# Altium integrated library Capacitors - Ceramic - 0402.IntLib: 4569 symbols (part 74 of 100)
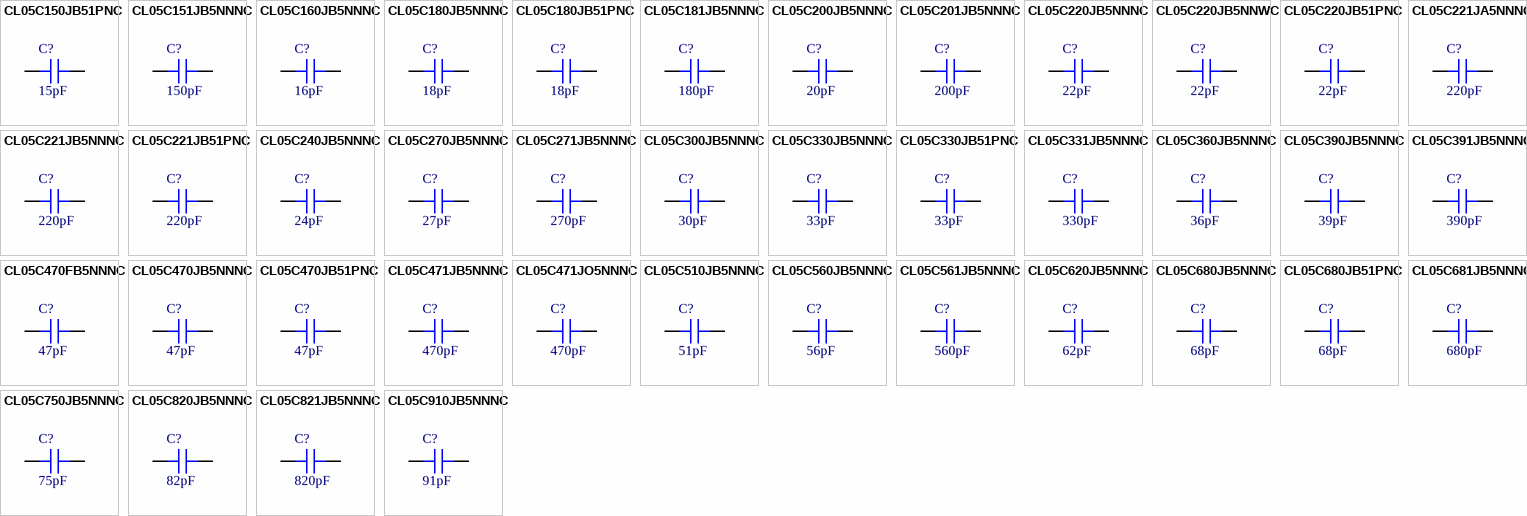
[diagram p187: symbols CL05C150JB51PNC to CL05C910JB5NNNC]

## CL05C471JO5NNNC
designator C?, comment 470pF
CAP CER 470PF 16V C0G/NP0 0402; Part Number: CL05C471JO5NNNC; Manufacturer: Samsung Electro-Mechanics; Temperature Coefficient: C0G, NP0; Tolerance: ±5%; Value: 470pF; Applications: General Purpose; Capacitance: 470pF; ComponentLink1Description: Datasheet; ComponentLink1URL: http://www.samsungsem.com/kr/support/product-search/mlcc/CL05C471JO5NNNC.jsp; ComponentLink2Description: DigiKey Link; ComponentLink2URL: http://digikey.com/product-detail/en/samsung-electro-mechanics/CL05C471JO5NNNC/1276-1700-1-ND/3889786; Device Package: 0402 (1005 Metric); LastUpdated: 9/2/2020 1:01:27 AM; Lifecycle Status: Active; Minimum Order: 1; Mounting Type: Surface Mount, MLCC; Operating Temperature: -55°C ~ 125°C; Package / Case: 0402 (1005 Metric); Packaging: TapeAndReel; PartId: 12963; Part Status: Active; Price: 0.01; Series: CL; Size / Dimension: 0.039" L x 0.020" W (1.00mm x 0.50mm); Supplier 1: DigiKey; Supplier Part Number 1: 1276-1700-1-ND; Thickness (Max): 0.022" (0.55mm); Voltage - Rated: 16V
footprint CAP 0402_1005
pins: 1, 2

## CL05C510JB5NNNC
designator C?, comment 51pF
CAP CER 51PF 50V C0G/NP0 0402; Part Number: CL05C510JB5NNNC; Manufacturer: Samsung Electro-Mechanics; Temperature Coefficient: C0G, NP0; Tolerance: ±5%; Value: 51pF; Applications: General Purpose; Capacitance: 51pF; ComponentLink1Description: Datasheet; ComponentLink1URL: http://www.samsungsem.com/kr/support/product-search/mlcc/CL05C510JB5NNNC.jsp; ComponentLink2Description: DigiKey Link; ComponentLink2URL: http://digikey.com/product-detail/en/samsung-electro-mechanics/CL05C510JB5NNNC/1276-1704-1-ND/3889790; Device Package: 0402 (1005 Metric); LastUpdated: 9/2/2020 1:02:04 AM; Lifecycle Status: Active; Minimum Order: 1; Mounting Type: Surface Mount, MLCC; Operating Temperature: -55°C ~ 125°C; Package / Case: 0402 (1005 Metric); Packaging: TapeAndReel; PartId: 10674; Part Status: Active; Price: 0.01; Series: CL; Size / Dimension: 0.039" L x 0.020" W (1.00mm x 0.50mm); Supplier 1: DigiKey; Supplier Part Number 1: 1276-1704-1-ND; Thickness (Max): 0.022" (0.55mm); Voltage - Rated: 50V
footprint CAP 0402_1005
pins: 1, 2

## CL05C560JB5NNNC
designator C?, comment 56pF
CAP CER 56PF 50V C0G/NP0 0402; Part Number: CL05C560JB5NNNC; Manufacturer: Samsung Electro-Mechanics; Temperature Coefficient: C0G, NP0; Tolerance: ±5%; Value: 56pF; Applications: General Purpose; Capacitance: 56pF; ComponentLink1Description: Datasheet; ComponentLink1URL: http://www.samsungsem.com/kr/support/product-search/mlcc/CL05C560JB5NNNC.jsp; ComponentLink2Description: DigiKey Link; ComponentLink2URL: http://digikey.com/product-detail/en/samsung-electro-mechanics/CL05C560JB5NNNC/1276-1707-1-ND/3889793; Device Package: 0402 (1005 Metric); LastUpdated: 9/2/2020 1:02:02 AM; Lifecycle Status: Active; Minimum Order: 1; Mounting Type: Surface Mount, MLCC; Operating Temperature: -55°C ~ 125°C; Package / Case: 0402 (1005 Metric); Packaging: CutTape; PartId: 11639; Part Status: Active; Price: 0.10; Series: CL; Size / Dimension: 0.039" L x 0.020" W (1.00mm x 0.50mm); Supplier 1: DigiKey; Supplier Part Number 1: 1276-1707-1-ND; Thickness (Max): 0.022" (0.55mm); Voltage - Rated: 50V
footprint CAP 0402_1005
pins: 1, 2

## CL05C561JB5NNNC
designator C?, comment 560pF
CAP CER 560PF 50V C0G/NP0 0402; Part Number: CL05C561JB5NNNC; Manufacturer: Samsung Electro-Mechanics; Temperature Coefficient: C0G, NP0; Tolerance: ±5%; Value: 560pF; Applications: General Purpose; Capacitance: 560pF; ComponentLink1Description: Datasheet; ComponentLink1URL: http://www.samsungsem.com/kr/support/product-search/mlcc/CL05C561JB5NNNC.jsp; ComponentLink2Description: DigiKey Link; ComponentLink2URL: http://digikey.com/product-detail/en/samsung-electro-mechanics/CL05C561JB5NNNC/1276-1709-1-ND/3889795; Device Package: 0402 (1005 Metric); LastUpdated: 9/2/2020 1:02:14 AM; Lifecycle Status: Active; Minimum Order: 1; Mounting Type: Surface Mount, MLCC; Operating Temperature: -55°C ~ 125°C; Package / Case: 0402 (1005 Metric); Packaging: TapeAndReel; PartId: 6169; Part Status: Active; Price: 0.01; Series: CL; Size / Dimension: 0.039" L x 0.020" W (1.00mm x 0.50mm); Supplier 1: DigiKey; Supplier Part Number 1: 1276-1709-1-ND; Thickness (Max): 0.022" (0.55mm); Voltage - Rated: 50V
footprint CAP 0402_1005
pins: 1, 2

## CL05C620JB5NNNC
designator C?, comment 62pF
CAP CER 62PF 50V C0G/NP0 0402; Part Number: CL05C620JB5NNNC; Manufacturer: Samsung Electro-Mechanics; Temperature Coefficient: C0G, NP0; Tolerance: ±5%; Value: 62pF; Applications: General Purpose; Capacitance: 62pF; ComponentLink1Description: Datasheet; ComponentLink1URL: http://www.samsungsem.com/kr/support/product-search/mlcc/CL05C620JB5NNNC.jsp; ComponentLink2Description: DigiKey Link; ComponentLink2URL: http://digikey.com/product-detail/en/samsung-electro-mechanics/CL05C620JB5NNNC/1276-1714-1-ND/3889800; Device Package: 0402 (1005 Metric); LastUpdated: 9/2/2020 1:02:04 AM; Lifecycle Status: Active; Minimum Order: 1; Mounting Type: Surface Mount, MLCC; Operating Temperature: -55°C ~ 125°C; Package / Case: 0402 (1005 Metric); Packaging: TapeAndReel; PartId: 10761; Part Status: Active; Price: 0.01; Series: CL; Size / Dimension: 0.039" L x 0.020" W (1.00mm x 0.50mm); Supplier 1: DigiKey; Supplier Part Number 1: 1276-1714-1-ND; Thickness (Max): 0.022" (0.55mm); Voltage - Rated: 50V
footprint CAP 0402_1005
pins: 1, 2

## CL05C680JB5NNNC
designator C?, comment 68pF
CAP CER 68PF 50V C0G/NP0 0402; Part Number: CL05C680JB5NNNC; Manufacturer: Samsung Electro-Mechanics; Temperature Coefficient: C0G, NP0; Tolerance: ±5%; Value: 68pF; Applications: General Purpose; Capacitance: 68pF; ComponentLink1Description: Datasheet; ComponentLink1URL: http://www.samsungsem.com/kr/support/product-search/mlcc/CL05C680JB5NNNC.jsp; ComponentLink2Description: DigiKey Link; ComponentLink2URL: http://digikey.com/product-detail/en/samsung-electro-mechanics/CL05C680JB5NNNC/1276-1030-1-ND/3889116; Device Package: 0402 (1005 Metric); LastUpdated: 9/2/2020 1:02:02 AM; Lifecycle Status: Active; Minimum Order: 1; Mounting Type: Surface Mount, MLCC; Operating Temperature: -55°C ~ 125°C; Package / Case: 0402 (1005 Metric); Packaging: CutTape; PartId: 11719; Part Status: Active; Price: 0.10; Series: CL; Size / Dimension: 0.039" L x 0.020" W (1.00mm x 0.50mm); Supplier 1: DigiKey; Supplier Part Number 1: 1276-1030-1-ND; Thickness (Max): 0.022" (0.55mm); Voltage - Rated: 50V
footprint CAP 0402_1005
pins: 1, 2

## CL05C680JB51PNC
designator C?, comment 68pF
CAP CER 68PF 50V C0G/NP0 0402; Part Number: CL05C680JB51PNC; Manufacturer: Samsung Electro-Mechanics; Temperature Coefficient: C0G, NP0; Tolerance: ±5%; Value: 68pF; Applications: Automotive; Capacitance: 68pF; ComponentLink1Description: Datasheet; ComponentLink1URL: http://www.samsungsem.com/kr/support/product-search/mlcc/CL05C680JB51PNC.jsp; ComponentLink2Description: DigiKey Link; ComponentLink2URL: http://digikey.com/product-detail/en/samsung-electro-mechanics/CL05C680JB51PNC/1276-6591-1-ND/5961450; Device Package: 0402 (1005 Metric); LastUpdated: 9/2/2020 1:02:09 AM; Lifecycle Status: Active; Minimum Order: 1; Mounting Type: Surface Mount, MLCC; Operating Temperature: -55°C ~ 125°C; Package / Case: 0402 (1005 Metric); Packaging: TapeAndReel; PartId: 8791; Part Status: Active; Price: 0.01; Ratings: AEC-Q200; Series: CL; Size / Dimension: 0.039" L x 0.020" W (1.00mm x 0.50mm); Supplier 1: DigiKey; Supplier Part Number 1: 1276-6591-1-ND; Thickness (Max): 0.022" (0.55mm); Voltage - Rated: 50V
footprint CAP 0402_1005
pins: 1, 2

## CL05C681JB5NNNC
designator C?, comment 680pF
CAP CER 680PF 50V C0G/NP0 0402; Part Number: CL05C681JB5NNNC; Manufacturer: Samsung Electro-Mechanics; Temperature Coefficient: C0G, NP0; Tolerance: ±5%; Value: 680pF; Applications: General Purpose; Capacitance: 680pF; ComponentLink1Description: Datasheet; ComponentLink1URL: http://www.samsungsem.com/kr/support/product-search/mlcc/CL05C681JB5NNNC.jsp; ComponentLink2Description: DigiKey Link; ComponentLink2URL: http://digikey.com/product-detail/en/samsung-electro-mechanics/CL05C681JB5NNNC/1276-1717-1-ND/3889803; Device Package: 0402 (1005 Metric); LastUpdated: 9/2/2020 1:02:04 AM; Lifecycle Status: Active; Minimum Order: 1; Mounting Type: Surface Mount, MLCC; Operating Temperature: -55°C ~ 125°C; Package / Case: 0402 (1005 Metric); Packaging: TapeAndReel; PartId: 10714; Part Status: Active; Price: 0.01; Series: CL; Size / Dimension: 0.039" L x 0.020" W (1.00mm x 0.50mm); Supplier 1: DigiKey; Supplier Part Number 1: 1276-1717-1-ND; Thickness (Max): 0.022" (0.55mm); Voltage - Rated: 50V
footprint CAP 0402_1005
pins: 1, 2

## CL05C750JB5NNNC
designator C?, comment 75pF
CAP CER 75PF 50V C0G/NP0 0402; Part Number: CL05C750JB5NNNC; Manufacturer: Samsung Electro-Mechanics; Temperature Coefficient: C0G, NP0; Tolerance: ±5%; Value: 75pF; Applications: General Purpose; Capacitance: 75pF; ComponentLink1Description: Datasheet; ComponentLink1URL: http://www.samsungsem.com/kr/support/product-search/mlcc/CL05C750JB5NNNC.jsp; ComponentLink2Description: DigiKey Link; ComponentLink2URL: http://digikey.com/product-detail/en/samsung-electro-mechanics/CL05C750JB5NNNC/1276-1723-1-ND/3889809; Device Package: 0402 (1005 Metric); LastUpdated: 9/2/2020 1:02:04 AM; Lifecycle Status: Active; Minimum Order: 1; Mounting Type: Surface Mount, MLCC; Operating Temperature: -55°C ~ 125°C; Package / Case: 0402 (1005 Metric); Packaging: TapeAndReel; PartId: 10759; Part Status: Active; Price: 0.01; Series: CL; Size / Dimension: 0.039" L x 0.020" W (1.00mm x 0.50mm); Supplier 1: DigiKey; Supplier Part Number 1: 1276-1723-1-ND; Thickness (Max): 0.022" (0.55mm); Voltage - Rated: 50V
footprint CAP 0402_1005
pins: 1, 2

## CL05C820JB5NNNC
designator C?, comment 82pF
CAP CER 82PF 50V C0G/NP0 0402; Part Number: CL05C820JB5NNNC; Manufacturer: Samsung Electro-Mechanics; Temperature Coefficient: C0G, NP0; Tolerance: ±5%; Value: 82pF; Applications: General Purpose; Capacitance: 82pF; ComponentLink1Description: Datasheet; ComponentLink1URL: http://www.samsungsem.com/kr/support/product-search/mlcc/CL05C820JB5NNNC.jsp; ComponentLink2Description: DigiKey Link; ComponentLink2URL: http://digikey.com/product-detail/en/samsung-electro-mechanics/CL05C820JB5NNNC/1276-1726-1-ND/3889812; Device Package: 0402 (1005 Metric); LastUpdated: 9/2/2020 1:02:02 AM; Lifecycle Status: Active; Minimum Order: 1; Mounting Type: Surface Mount, MLCC; Operating Temperature: -55°C ~ 125°C; Package / Case: 0402 (1005 Metric); Packaging: CutTape; PartId: 11722; Part Status: Active; Price: 0.10; Series: CL; Size / Dimension: 0.039" L x 0.020" W (1.00mm x 0.50mm); Supplier 1: DigiKey; Supplier Part Number 1: 1276-1726-1-ND; Thickness (Max): 0.022" (0.55mm); Voltage - Rated: 50V
footprint CAP 0402_1005
pins: 1, 2

## CL05C821JB5NNNC
designator C?, comment 820pF
CAP CER 820PF 50V C0G/NP0 0402; Part Number: CL05C821JB5NNNC; Manufacturer: Samsung Electro-Mechanics; Temperature Coefficient: C0G, NP0; Tolerance: ±5%; Value: 820pF; Applications: General Purpose; Capacitance: 820pF; ComponentLink1Description: Datasheet; ComponentLink1URL: http://www.samsungsem.com/kr/support/product-search/mlcc/CL05C821JB5NNNC.jsp; ComponentLink2Description: DigiKey Link; ComponentLink2URL: http://digikey.com/product-detail/en/samsung-electro-mechanics/CL05C821JB5NNNC/1276-1727-1-ND/3889813; Device Package: 0402 (1005 Metric); LastUpdated: 9/2/2020 1:02:14 AM; Lifecycle Status: Active; Minimum Order: 1; Mounting Type: Surface Mount, MLCC; Operating Temperature: -55°C ~ 125°C; Package / Case: 0402 (1005 Metric); Packaging: TapeAndReel; PartId: 6256; Part Status: Active; Price: 0.01; Series: CL; Size / Dimension: 0.039" L x 0.020" W (1.00mm x 0.50mm); Supplier 1: DigiKey; Supplier Part Number 1: 1276-1727-1-ND; Thickness (Max): 0.022" (0.55mm); Voltage - Rated: 50V
footprint CAP 0402_1005
pins: 1, 2

## CL05C910JB5NNNC
designator C?, comment 91pF
CAP CER 91PF 50V C0G/NP0 0402; Part Number: CL05C910JB5NNNC; Manufacturer: Samsung Electro-Mechanics; Temperature Coefficient: C0G, NP0; Tolerance: ±5%; Value: 91pF; Applications: General Purpose; Capacitance: 91pF; ComponentLink1Description: Datasheet; ComponentLink1URL: http://www.samsungsem.com/kr/support/product-search/mlcc/CL05C910JB5NNNC.jsp; ComponentLink2Description: DigiKey Link; ComponentLink2URL: http://digikey.com/product-detail/en/samsung-electro-mechanics/CL05C910JB5NNNC/1276-1732-1-ND/3889818; Device Package: 0402 (1005 Metric); LastUpdated: 9/2/2020 1:02:24 AM; Lifecycle Status: Active; Minimum Order: 1; Mounting Type: Surface Mount, MLCC; Operating Temperature: -55°C ~ 125°C; Package / Case: 0402 (1005 Metric); Packaging: TapeAndReel; PartId: 2050; Part Status: Active; Price: 0.01; Series: CL; Size / Dimension: 0.039" L x 0.020" W (1.00mm x 0.50mm); Supplier 1: DigiKey; Supplier Part Number 1: 1276-1732-1-ND; Thickness (Max): 0.022" (0.55mm); Voltage - Rated: 50V
footprint CAP 0402_1005
pins: 1, 2

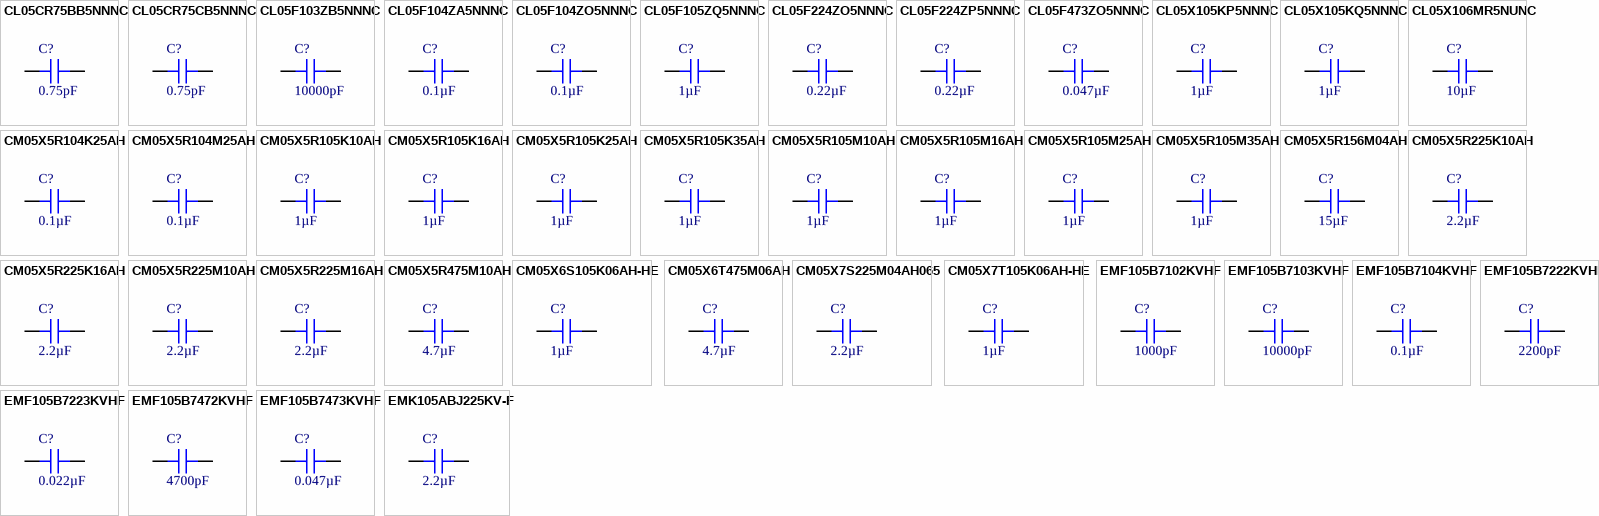
[diagram p84: symbols CL05CR75BB5NNNC to EMK105ABJ225KV-F]

## CL05CR75BB5NNNC
designator C?, comment 0.75pF
CAP CER 0.75PF 50V C0G/NP0 0402; Part Number: CL05CR75BB5NNNC; Manufacturer: Samsung Electro-Mechanics; Temperature Coefficient: C0G, NP0; Tolerance: ±0.1pF; Value: 0.75pF; Applications: General Purpose; Capacitance: 0.75pF; ComponentLink1Description: Datasheet; ComponentLink1URL: http://www.samsungsem.com/kr/support/product-search/mlcc/CL05CR75BB5NNNC.jsp; ComponentLink2Description: DigiKey Link; ComponentLink2URL: http://digikey.com/product-detail/en/samsung-electro-mechanics/CL05CR75BB5NNNC/1276-1735-1-ND/3889821; Device Package: 0402 (1005 Metric); LastUpdated: 9/2/2020 1:02:14 AM; Lifecycle Status: Active; Minimum Order: 1; Mounting Type: Surface Mount, MLCC; Operating Temperature: -55°C ~ 125°C; Package / Case: 0402 (1005 Metric); Packaging: TapeAndReel; PartId: 6139; Part Status: Active; Price: 0.01; Series: CL; Size / Dimension: 0.039" L x 0.020" W (1.00mm x 0.50mm); Supplier 1: DigiKey; Supplier Part Number 1: 1276-1735-1-ND; Thickness (Max): 0.022" (0.55mm); Voltage - Rated: 50V
footprint CAP 0402_1005
pins: 1, 2

## CL05CR75CB5NNNC
designator C?, comment 0.75pF
CAP CER 0.75PF 50V C0G/NP0 0402; Part Number: CL05CR75CB5NNNC; Manufacturer: Samsung Electro-Mechanics; Temperature Coefficient: C0G, NP0; Tolerance: ±0.25pF; Value: 0.75pF; Applications: General Purpose; Capacitance: 0.75pF; ComponentLink1Description: Datasheet; ComponentLink1URL: http://www.samsungsem.com/kr/support/product-search/mlcc/CL05CR75CB5NNNC.jsp; ComponentLink2Description: DigiKey Link; ComponentLink2URL: http://digikey.com/product-detail/en/samsung-electro-mechanics/CL05CR75CB5NNNC/1276-1736-1-ND/3889822; Device Package: 0402 (1005 Metric); LastUpdated: 9/2/2020 1:02:07 AM; Lifecycle Status: Active; Minimum Order: 1; Mounting Type: Surface Mount, MLCC; Operating Temperature: -55°C ~ 125°C; Package / Case: 0402 (1005 Metric); Packaging: TapeAndReel; PartId: 9513; Part Status: Active; Price: 0.01; Series: CL; Size / Dimension: 0.039" L x 0.020" W (1.00mm x 0.50mm); Supplier 1: DigiKey; Supplier Part Number 1: 1276-1736-1-ND; Thickness (Max): 0.022" (0.55mm); Voltage - Rated: 50V
footprint CAP 0402_1005
pins: 1, 2

## CL05F103ZB5NNNC
designator C?, comment 10000pF
CAP CER 10000PF 50V Y5V 0402; Part Number: CL05F103ZB5NNNC; Manufacturer: Samsung Electro-Mechanics; Temperature Coefficient: Y5V (F); Tolerance: -20%, +80%; Value: 10000pF; Applications: General Purpose; Capacitance: 10000pF; ComponentLink1Description: Datasheet; ComponentLink1URL: http://www.samsungsem.com/kr/support/product-search/mlcc/CL05F103ZB5NNNC.jsp; ComponentLink2Description: DigiKey Link; ComponentLink2URL: http://digikey.com/product-detail/en/samsung-electro-mechanics/CL05F103ZB5NNNC/1276-1737-1-ND/3889823; Device Package: 0402 (1005 Metric); LastUpdated: 9/2/2020 1:02:04 AM; Lifecycle Status: Active; Minimum Order: 1; Mounting Type: Surface Mount, MLCC; Operating Temperature: -30°C ~ 85°C; Package / Case: 0402 (1005 Metric); Packaging: TapeAndReel; PartId: 10653; Part Status: Active; Price: 0.01; Series: CL; Size / Dimension: 0.039" L x 0.020" W (1.00mm x 0.50mm); Supplier 1: DigiKey; Supplier Part Number 1: 1276-1737-1-ND; Thickness (Max): 0.022" (0.55mm); Voltage - Rated: 50V
footprint CAP 0402_1005
pins: 1, 2

## CL05F104ZA5NNNC
designator C?, comment 0.1µF
CAP CER 0.1UF 25V Y5V 0402; Part Number: CL05F104ZA5NNNC; Manufacturer: Samsung Electro-Mechanics; Temperature Coefficient: Y5V (F); Tolerance: -20%, +80%; Value: 0.1µF; Applications: General Purpose; Capacitance: 0.1µF; ComponentLink1Description: Datasheet; ComponentLink1URL: http://www.samsungsem.com/kr/support/product-search/mlcc/CL05F104ZA5NNNC.jsp; ComponentLink2Description: DigiKey Link; ComponentLink2URL: http://digikey.com/product-detail/en/samsung-electro-mechanics/CL05F104ZA5NNNC/1276-1739-1-ND/3889825; Device Package: 0402 (1005 Metric); LastUpdated: 9/2/2020 1:02:04 AM; Lifecycle Status: Active; Minimum Order: 1; Mounting Type: Surface Mount, MLCC; Operating Temperature: -30°C ~ 85°C; Package / Case: 0402 (1005 Metric); Packaging: TapeAndReel; PartId: 10661; Part Status: Active; Price: 0.01; Series: CL; Size / Dimension: 0.039" L x 0.020" W (1.00mm x 0.50mm); Supplier 1: DigiKey; Supplier Part Number 1: 1276-1739-1-ND; Thickness (Max): 0.022" (0.55mm); Voltage - Rated: 25V
footprint CAP 0402_1005
pins: 1, 2

## CL05F104ZO5NNNC
designator C?, comment 0.1µF
CAP CER 0.1UF 16V Y5V 0402; Part Number: CL05F104ZO5NNNC; Manufacturer: Samsung Electro-Mechanics; Temperature Coefficient: Y5V (F); Tolerance: -20%, +80%; Value: 0.1µF; Applications: General Purpose; Capacitance: 0.1µF; ComponentLink1Description: Datasheet; ComponentLink1URL: http://www.samsungsem.com/kr/support/product-search/mlcc/CL05F104ZO5NNNC.jsp; ComponentLink2Description: DigiKey Link; ComponentLink2URL: http://digikey.com/product-detail/en/samsung-electro-mechanics/CL05F104ZO5NNNC/1276-1004-1-ND/3889090; Device Package: 0402 (1005 Metric); LastUpdated: 9/2/2020 1:02:13 AM; Lifecycle Status: Active; Minimum Order: 1; Mounting Type: Surface Mount, MLCC; Operating Temperature: -30°C ~ 85°C; Package / Case: 0402 (1005 Metric); Packaging: CutTape; PartId: 6672; Part Status: Active; Price: 0.10; Series: CL; Size / Dimension: 0.039" L x 0.020" W (1.00mm x 0.50mm); Supplier 1: DigiKey; Supplier Part Number 1: 1276-1004-1-ND; Thickness (Max): 0.022" (0.55mm); Voltage - Rated: 16V
footprint CAP 0402_1005
pins: 1, 2

## CL05F105ZQ5NNNC
designator C?, comment 1µF
CAP CER 1UF 6.3V Y5V 0402; Part Number: CL05F105ZQ5NNNC; Manufacturer: Samsung Electro-Mechanics; Temperature Coefficient: Y5V (F); Tolerance: -20%, +80%; Value: 1µF; Applications: General Purpose; Capacitance: 1µF; ComponentLink1Description: Datasheet; ComponentLink1URL: http://www.samsungsem.com/kr/support/product-search/mlcc/CL05F105ZQ5NNNC.jsp; ComponentLink2Description: DigiKey Link; ComponentLink2URL: http://digikey.com/product-detail/en/samsung-electro-mechanics/CL05F105ZQ5NNNC/1276-1741-1-ND/3889827; Device Package: 0402 (1005 Metric); LastUpdated: 9/2/2020 1:02:09 AM; Lifecycle Status: Active; Minimum Order: 1; Mounting Type: Surface Mount, MLCC; Operating Temperature: -30°C ~ 85°C; Package / Case: 0402 (1005 Metric); Packaging: TapeAndReel; PartId: 8775; Part Status: Active; Price: 0.01; Series: CL; Size / Dimension: 0.039" L x 0.020" W (1.00mm x 0.50mm); Supplier 1: DigiKey; Supplier Part Number 1: 1276-1741-1-ND; Thickness (Max): 0.022" (0.55mm); Voltage - Rated: 6.3V
footprint CAP 0402_1005
pins: 1, 2

## CL05F224ZO5NNNC
designator C?, comment 0.22µF
CAP CER 0.22UF 16V Y5V 0402; Part Number: CL05F224ZO5NNNC; Manufacturer: Samsung Electro-Mechanics; Temperature Coefficient: Y5V (F); Tolerance: -20%, +80%; Value: 0.22µF; Applications: General Purpose; Capacitance: 0.22µF; ComponentLink1Description: Datasheet; ComponentLink1URL: http://www.samsungsem.com/kr/support/product-search/mlcc/CL05F224ZO5NNNC.jsp; ComponentLink2Description: DigiKey Link; ComponentLink2URL: http://digikey.com/product-detail/en/samsung-electro-mechanics/CL05F224ZO5NNNC/1276-1060-1-ND/3889146; Device Package: 0402 (1005 Metric); LastUpdated: 9/2/2020 1:02:14 AM; Lifecycle Status: Active; Minimum Order: 1; Mounting Type: Surface Mount, MLCC; Operating Temperature: -30°C ~ 85°C; Package / Case: 0402 (1005 Metric); Packaging: TapeAndReel; PartId: 6253; Part Status: Active; Price: 0.01; Series: CL; Size / Dimension: 0.039" L x 0.020" W (1.00mm x 0.50mm); Supplier 1: DigiKey; Supplier Part Number 1: 1276-1060-1-ND; Thickness (Max): 0.022" (0.55mm); Voltage - Rated: 16V
footprint CAP 0402_1005
pins: 1, 2

## CL05F224ZP5NNNC
designator C?, comment 0.22µF
CAP CER 0.22UF 10V Y5V 0402; Part Number: CL05F224ZP5NNNC; Manufacturer: Samsung Electro-Mechanics; Temperature Coefficient: Y5V (F); Tolerance: -20%, +80%; Value: 0.22µF; Applications: General Purpose; Capacitance: 0.22µF; ComponentLink1Description: Datasheet; ComponentLink1URL: http://www.samsungsem.com/kr/support/product-search/mlcc/CL05F224ZP5NNNC.jsp; ComponentLink2Description: DigiKey Link; ComponentLink2URL: http://digikey.com/product-detail/en/samsung-electro-mechanics/CL05F224ZP5NNNC/1276-1746-1-ND/3889832; Device Package: 0402 (1005 Metric); LastUpdated: 9/2/2020 1:02:08 AM; Lifecycle Status: Active; Minimum Order: 1; Mounting Type: Surface Mount, MLCC; Operating Temperature: -30°C ~ 85°C; Package / Case: 0402 (1005 Metric); Packaging: TapeAndReel; PartId: 9162; Part Status: Active; Price: 0.01; Series: CL; Size / Dimension: 0.039" L x 0.020" W (1.00mm x 0.50mm); Supplier 1: DigiKey; Supplier Part Number 1: 1276-1746-1-ND; Thickness (Max): 0.022" (0.55mm); Voltage - Rated: 10V
footprint CAP 0402_1005
pins: 1, 2

## CL05F473ZO5NNNC
designator C?, comment 0.047µF
CAP CER 0.047UF 16V Y5V 0402; Part Number: CL05F473ZO5NNNC; Manufacturer: Samsung Electro-Mechanics; Temperature Coefficient: Y5V (F); Tolerance: -20%, +80%; Value: 0.047µF; Applications: General Purpose; Capacitance: 0.047µF; ComponentLink1Description: Datasheet; ComponentLink1URL: http://www.samsungsem.com/kr/support/product-search/mlcc/CL05F473ZO5NNNC.jsp; ComponentLink2Description: DigiKey Link; ComponentLink2URL: http://digikey.com/product-detail/en/samsung-electro-mechanics/CL05F473ZO5NNNC/1276-1750-1-ND/3889836; Device Package: 0402 (1005 Metric); LastUpdated: 9/2/2020 1:02:02 AM; Lifecycle Status: Active; Minimum Order: 1; Mounting Type: Surface Mount, MLCC; Operating Temperature: -30°C ~ 85°C; Package / Case: 0402 (1005 Metric); Packaging: CutTape; PartId: 11680; Part Status: Active; Price: 0.10; Series: CL; Size / Dimension: 0.039" L x 0.020" W (1.00mm x 0.50mm); Supplier 1: DigiKey; Supplier Part Number 1: 1276-1750-1-ND; Thickness (Max): 0.022" (0.55mm); Voltage - Rated: 16V
footprint CAP 0402_1005
pins: 1, 2

## CL05X105KP5NNNC
designator C?, comment 1µF
CAP CER 1UF 10V X6S 0402; Part Number: CL05X105KP5NNNC; Manufacturer: Samsung Electro-Mechanics; Tolerance: ±10%; Value: 1µF; Applications: General Purpose; Capacitance: 1µF; ComponentLink1Description: Datasheet; ComponentLink1URL: http://www.samsungsem.com/kr/support/product-search/mlcc/CL05X105KP5NNNC.jsp; ComponentLink2Description: DigiKey Link; ComponentLink2URL: http://digikey.com/product-detail/en/samsung-electro-mechanics/CL05X105KP5NNNC/1276-6805-1-ND/5961664; Device Package: 0402 (1005 Metric); LastUpdated: 9/2/2020 1:02:21 AM; Lifecycle Status: Active; Minimum Order: 1; Mounting Type: Surface Mount, MLCC; Operating Temperature: -55°C ~ 105°C; Package / Case: 0402 (1005 Metric); Packaging: TapeAndReel; PartId: 3150; Part Status: Active; Price: 0.01; Series: CL; Size / Dimension: 0.039" L x 0.020" W (1.00mm x 0.50mm); Supplier 1: DigiKey; Supplier Part Number 1: 1276-6805-1-ND; Temperature Coefficient: X6S; Thickness (Max): 0.022" (0.55mm); Voltage - Rated: 10V
footprint CAP 0402_1005
pins: 1, 2

## CL05X105KQ5NNNC
designator C?, comment 1µF
CAP CER 1UF 6.3V X6S 0402; Part Number: CL05X105KQ5NNNC; Manufacturer: Samsung Electro-Mechanics; Tolerance: ±10%; Value: 1µF; Applications: General Purpose; Capacitance: 1µF; ComponentLink1Description: Datasheet; ComponentLink1URL: http://www.samsungsem.com/kr/support/product-search/mlcc/CL05X105KQ5NNNC.jsp; ComponentLink2Description: DigiKey Link; ComponentLink2URL: http://digikey.com/product-detail/en/samsung-electro-mechanics/CL05X105KQ5NNNC/1276-1754-1-ND/3889840; Device Package: 0402 (1005 Metric); LastUpdated: 9/2/2020 1:02:21 AM; Lifecycle Status: Active; Minimum Order: 1; Mounting Type: Surface Mount, MLCC; Operating Temperature: -55°C ~ 105°C; Package / Case: 0402 (1005 Metric); Packaging: TapeAndReel; PartId: 3106; Part Status: Active; Price: 0.01; Series: CL; Size / Dimension: 0.039" L x 0.020" W (1.00mm x 0.50mm); Supplier 1: DigiKey; Supplier Part Number 1: 1276-1754-1-ND; Temperature Coefficient: X6S; Thickness (Max): 0.022" (0.55mm); Voltage - Rated: 6.3V
footprint CAP 0402_1005
pins: 1, 2

## CL05X106MR5NUNC
designator C?, comment 10µF
CAP CER 10UF 4V X6S 0402; Part Number: CL05X106MR5NUNC; Manufacturer: Samsung Electro-Mechanics; Tolerance: ±20%; Value: 10µF; Applications: General Purpose; Capacitance: 10µF; ComponentLink1Description: Datasheet; ComponentLink1URL: http://www.samsungsem.com/kr/support/product-search/mlcc/CL05X106MR5NUN.jsp; ComponentLink2Description: DigiKey Link; ComponentLink2URL: http://digikey.com/product-detail/en/samsung-electro-mechanics/CL05X106MR5NUNC/1276-6779-1-ND/5961638; Device Package: 0402 (1005 Metric); LastUpdated: 9/2/2020 1:02:09 AM; Lifecycle Status: Active; Minimum Order: 1; Mounting Type: Surface Mount, MLCC; Operating Temperature: -55°C ~ 105°C; Package / Case: 0402 (1005 Metric); Packaging: TapeAndReel; PartId: 8726; Part Status: Active; Price: 0.03; Series: CL; Size / Dimension: 0.039" L x 0.020" W (1.00mm x 0.50mm); Supplier 1: DigiKey; Supplier Part Number 1: 1276-6779-1-ND; Temperature Coefficient: X6S; Thickness (Max): 0.022" (0.55mm); Voltage - Rated: 4V
footprint CAP 0402_1005
pins: 1, 2

## CM05X5R104K25AH
designator C?, comment 0.1µF
CAP CER 0.1UF 25V X5R 0402; Part Number: CM05X5R104K25AH; Manufacturer: Kyocera International Inc. Electronic Components; Tolerance: ±10%; Value: 0.1µF; Applications: General Purpose; Capacitance: 0.1µF; ComponentLink1Description: Datasheet; ComponentLink1URL: https://global.kyocera.com/prdct/electro/product/pdf/cm_e.pdf; ComponentLink2Description: DigiKey Link; ComponentLink2URL: http://digikey.com/product-detail/en/kyocera-international-inc-electronic-components/CM05X5R104K25AH/1253-CM05X5R104K25AHCT-ND/11564142; Device Package: 0402 (1005 Metric); LastUpdated: 9/2/2020 1:00:46 AM; Lifecycle Status: Active; Minimum Order: 1; Mounting Type: Surface Mount, MLCC; Operating Temperature: -55°C ~ 85°C; Package / Case: 0402 (1005 Metric); Packaging: TapeAndReel; PartId: 27096; Part Status: Active; Price: 0.01; Series: CM; Supplier 1: DigiKey; Supplier Part Number 1: 1253-CM05X5R104K25AHCT-ND; Temperature Coefficient: X5R; Voltage - Rated: 25V
footprint CAP 0402_1005
pins: 1, 2

## CM05X5R104M25AH
designator C?, comment 0.1µF
CAP CER 0.1UF 25V X5R 0402; Part Number: CM05X5R104M25AH; Manufacturer: Kyocera International Inc. Electronic Components; Tolerance: ±20%; Value: 0.1µF; Applications: General Purpose; Capacitance: 0.1µF; ComponentLink1Description: Datasheet; ComponentLink1URL: https://global.kyocera.com/prdct/electro/product/pdf/cm_e.pdf; ComponentLink2Description: DigiKey Link; ComponentLink2URL: http://digikey.com/product-detail/en/kyocera-international-inc-electronic-components/CM05X5R104M25AH/1253-CM05X5R104M25AHCT-ND/11564039; Device Package: 0402 (1005 Metric); LastUpdated: 9/2/2020 1:00:45 AM; Lifecycle Status: Active; Minimum Order: 1; Mounting Type: Surface Mount, MLCC; Operating Temperature: -55°C ~ 85°C; Package / Case: 0402 (1005 Metric); Packaging: TapeAndReel; PartId: 27095; Part Status: Active; Price: 0.01; Series: CM; Supplier 1: DigiKey; Supplier Part Number 1: 1253-CM05X5R104M25AHCT-ND; Temperature Coefficient: X5R; Voltage - Rated: 25V
footprint CAP 0402_1005
pins: 1, 2

## CM05X5R105K10AH
designator C?, comment 1µF
CAP CER 1?F 10V X5R 0402; Part Number: CM05X5R105K10AH; Manufacturer: Kyocera International Inc. Electronic Components; Tolerance: ±10%; Value: 1µF; Applications: General Purpose; Capacitance: 1µF; ComponentLink1Description: Datasheet; ComponentLink1URL: https://global.kyocera.com/prdct/electro/product/pdf/cm_e.pdf; ComponentLink2Description: DigiKey Link; ComponentLink2URL: http://digikey.com/product-detail/en/kyocera-international-inc-electronic-components/CM05X5R105K10AH/1253-CM05X5R105K10AHCT-ND/11564086; Device Package: 0402 (1005 Metric); LastUpdated: 9/2/2020 1:00:48 AM; Lifecycle Status: Active; Minimum Order: 1; Mounting Type: Surface Mount, MLCC; Operating Temperature: -55°C ~ 85°C; Package / Case: 0402 (1005 Metric); Packaging: TapeAndReel; PartId: 27127; Part Status: Active; Price: 0.02; Series: CM; Supplier 1: DigiKey; Supplier Part Number 1: 1253-CM05X5R105K10AHCT-ND; Temperature Coefficient: X5R; Voltage - Rated: 10V
footprint CAP 0402_1005
pins: 1, 2

## CM05X5R105K16AH
designator C?, comment 1µF
CAP CER 1?F 16V X5R 0402; Part Number: CM05X5R105K16AH; Manufacturer: Kyocera International Inc. Electronic Components; Tolerance: ±10%; Value: 1µF; Applications: General Purpose; Capacitance: 1µF; ComponentLink1Description: Datasheet; ComponentLink1URL: https://global.kyocera.com/prdct/electro/product/pdf/cm_e.pdf; ComponentLink2Description: DigiKey Link; ComponentLink2URL: http://digikey.com/product-detail/en/kyocera-international-inc-electronic-components/CM05X5R105K16AH/1253-CM05X5R105K16AHCT-ND/11564030; Device Package: 0402 (1005 Metric); LastUpdated: 9/2/2020 1:00:48 AM; Lifecycle Status: Active; Minimum Order: 1; Mounting Type: Surface Mount, MLCC; Operating Temperature: -55°C ~ 85°C; Package / Case: 0402 (1005 Metric); Packaging: TapeAndReel; PartId: 27118; Part Status: Active; Price: 0.03; Series: CM; Supplier 1: DigiKey; Supplier Part Number 1: 1253-CM05X5R105K16AHCT-ND; Temperature Coefficient: X5R; Voltage - Rated: 16V
footprint CAP 0402_1005
pins: 1, 2

## CM05X5R105K25AH
designator C?, comment 1µF
CAP CER 1?F 25V X5R 0402; Part Number: CM05X5R105K25AH; Manufacturer: Kyocera International Inc. Electronic Components; Tolerance: ±10%; Value: 1µF; Applications: General Purpose; Capacitance: 1µF; ComponentLink1Description: Datasheet; ComponentLink1URL: https://global.kyocera.com/prdct/electro/product/pdf/cm_e.pdf; ComponentLink2Description: DigiKey Link; ComponentLink2URL: http://digikey.com/product-detail/en/kyocera-international-inc-electronic-components/CM05X5R105K25AH/1253-CM05X5R105K25AHCT-ND/11564159; Device Package: 0402 (1005 Metric); LastUpdated: 9/2/2020 1:00:47 AM; Lifecycle Status: Active; Minimum Order: 1; Mounting Type: Surface Mount, MLCC; Operating Temperature: -55°C ~ 85°C; Package / Case: 0402 (1005 Metric); Packaging: TapeAndReel; PartId: 27115; Part Status: Active; Price: 0.03; Series: CM; Supplier 1: DigiKey; Supplier Part Number 1: 1253-CM05X5R105K25AHCT-ND; Temperature Coefficient: X5R; Voltage - Rated: 25V
footprint CAP 0402_1005
pins: 1, 2

## CM05X5R105K35AH
designator C?, comment 1µF
CAP CER 1?F 35V X5R 0402; Part Number: CM05X5R105K35AH; Manufacturer: Kyocera International Inc. Electronic Components; Tolerance: ±10%; Value: 1µF; Applications: General Purpose; Capacitance: 1µF; ComponentLink1Description: Datasheet; ComponentLink1URL: https://global.kyocera.com/prdct/electro/product/pdf/cm_e.pdf; ComponentLink2Description: DigiKey Link; ComponentLink2URL: http://digikey.com/product-detail/en/kyocera-international-inc-electronic-components/CM05X5R105K35AH/1253-CM05X5R105K35AHCT-ND/11563982; Device Package: 0402 (1005 Metric); LastUpdated: 9/2/2020 1:00:47 AM; Lifecycle Status: Active; Minimum Order: 1; Mounting Type: Surface Mount, MLCC; Operating Temperature: -55°C ~ 85°C; Package / Case: 0402 (1005 Metric); Packaging: TapeAndReel; PartId: 27114; Part Status: Active; Price: 0.03; Series: CM; Supplier 1: DigiKey; Supplier Part Number 1: 1253-CM05X5R105K35AHCT-ND; Temperature Coefficient: X5R; Voltage - Rated: 35V
footprint CAP 0402_1005
pins: 1, 2

## CM05X5R105M10AH
designator C?, comment 1µF
CAP CER 1?F 10V X5R 0402; Part Number: CM05X5R105M10AH; Manufacturer: Kyocera International Inc. Electronic Components; Tolerance: ±20%; Value: 1µF; Applications: General Purpose; Capacitance: 1µF; ComponentLink1Description: Datasheet; ComponentLink1URL: https://global.kyocera.com/prdct/electro/product/pdf/cm_e.pdf; ComponentLink2Description: DigiKey Link; ComponentLink2URL: http://digikey.com/product-detail/en/kyocera-international-inc-electronic-components/CM05X5R105M10AH/1253-CM05X5R105M10AHCT-ND/11564165; Device Package: 0402 (1005 Metric); LastUpdated: 9/2/2020 1:00:48 AM; Lifecycle Status: Active; Minimum Order: 1; Mounting Type: Surface Mount, MLCC; Operating Temperature: -55°C ~ 85°C; Package / Case: 0402 (1005 Metric); Packaging: TapeAndReel; PartId: 27128; Part Status: Active; Price: 0.02; Series: CM; Supplier 1: DigiKey; Supplier Part Number 1: 1253-CM05X5R105M10AHCT-ND; Temperature Coefficient: X5R; Voltage - Rated: 10V
footprint CAP 0402_1005
pins: 1, 2

## CM05X5R105M16AH
designator C?, comment 1µF
CAP CER 1?F 16V X5R 0402; Part Number: CM05X5R105M16AH; Manufacturer: Kyocera International Inc. Electronic Components; Tolerance: ±20%; Value: 1µF; Applications: General Purpose; Capacitance: 1µF; ComponentLink1Description: Datasheet; ComponentLink1URL: https://global.kyocera.com/prdct/electro/product/pdf/cm_e.pdf; ComponentLink2Description: DigiKey Link; ComponentLink2URL: http://digikey.com/product-detail/en/kyocera-international-inc-electronic-components/CM05X5R105M16AH/1253-CM05X5R105M16AHCT-ND/11564032; Device Package: 0402 (1005 Metric); LastUpdated: 9/2/2020 1:00:48 AM; Lifecycle Status: Active; Minimum Order: 1; Mounting Type: Surface Mount, MLCC; Operating Temperature: -55°C ~ 85°C; Package / Case: 0402 (1005 Metric); Packaging: TapeAndReel; PartId: 27122; Part Status: Active; Price: 0.02; Series: CM; Supplier 1: DigiKey; Supplier Part Number 1: 1253-CM05X5R105M16AHCT-ND; Temperature Coefficient: X5R; Voltage - Rated: 16V
footprint CAP 0402_1005
pins: 1, 2

## CM05X5R105M25AH
designator C?, comment 1µF
CAP CER 1?F 25V X5R 0402; Part Number: CM05X5R105M25AH; Manufacturer: Kyocera International Inc. Electronic Components; Tolerance: ±20%; Value: 1µF; Applications: General Purpose; Capacitance: 1µF; ComponentLink1Description: Datasheet; ComponentLink1URL: https://global.kyocera.com/prdct/electro/product/pdf/cm_e.pdf; ComponentLink2Description: DigiKey Link; ComponentLink2URL: http://digikey.com/product-detail/en/kyocera-international-inc-electronic-components/CM05X5R105M25AH/1253-CM05X5R105M25AHCT-ND/11564129; Device Package: 0402 (1005 Metric); LastUpdated: 9/2/2020 1:00:47 AM; Lifecycle Status: Active; Minimum Order: 1; Mounting Type: Surface Mount, MLCC; Operating Temperature: -55°C ~ 85°C; Package / Case: 0402 (1005 Metric); Packaging: TapeAndReel; PartId: 27117; Part Status: Active; Price: 0.03; Series: CM; Supplier 1: DigiKey; Supplier Part Number 1: 1253-CM05X5R105M25AHCT-ND; Temperature Coefficient: X5R; Voltage - Rated: 25V
footprint CAP 0402_1005
pins: 1, 2

## CM05X5R105M35AH
designator C?, comment 1µF
CAP CER 1?F 35V X5R 0402; Part Number: CM05X5R105M35AH; Manufacturer: Kyocera International Inc. Electronic Components; Tolerance: ±20%; Value: 1µF; Applications: General Purpose; Capacitance: 1µF; ComponentLink1Description: Datasheet; ComponentLink1URL: https://global.kyocera.com/prdct/electro/product/pdf/cm_e.pdf; ComponentLink2Description: DigiKey Link; ComponentLink2URL: http://digikey.com/product-detail/en/kyocera-international-inc-electronic-components/CM05X5R105M35AH/1253-CM05X5R105M35AHCT-ND/11564070; Device Package: 0402 (1005 Metric); LastUpdated: 9/2/2020 1:00:47 AM; Lifecycle Status: Active; Minimum Order: 1; Mounting Type: Surface Mount, MLCC; Operating Temperature: -55°C ~ 85°C; Package / Case: 0402 (1005 Metric); Packaging: TapeAndReel; PartId: 27116; Part Status: Active; Price: 0.03; Series: CM; Supplier 1: DigiKey; Supplier Part Number 1: 1253-CM05X5R105M35AHCT-ND; Temperature Coefficient: X5R; Voltage - Rated: 35V
footprint CAP 0402_1005
pins: 1, 2

## CM05X5R156M04AH
designator C?, comment 15µF
CAP CER 15?F 4V X5R 0402; Part Number: CM05X5R156M04AH; Manufacturer: Kyocera International Inc. Electronic Components; Tolerance: ±20%; Value: 15µF; Applications: General Purpose; Capacitance: 15µF; ComponentLink1Description: Datasheet; ComponentLink1URL: https://global.kyocera.com/prdct/electro/product/pdf/cm_e.pdf; ComponentLink2Description: DigiKey Link; ComponentLink2URL: http://digikey.com/product-detail/en/kyocera-international-inc-electronic-components/CM05X5R156M04AH/1253-CM05X5R156M04AHCT-ND/11564104; Device Package: 0402 (1005 Metric); LastUpdated: 9/2/2020 1:00:47 AM; Lifecycle Status: Active; Minimum Order: 1; Mounting Type: Surface Mount, MLCC; Operating Temperature: -55°C ~ 85°C; Package / Case: 0402 (1005 Metric); Packaging: TapeAndReel; PartId: 27112; Part Status: Active; Price: 0.04; Series: CM; Supplier 1: DigiKey; Supplier Part Number 1: 1253-CM05X5R156M04AHCT-ND; Temperature Coefficient: X5R; Voltage - Rated: 4V
footprint CAP 0402_1005
pins: 1, 2

## CM05X5R225K10AH
designator C?, comment 2.2µF
CAP CER 2.2?F 10V X5R 0402; Part Number: CM05X5R225K10AH; Manufacturer: Kyocera International Inc. Electronic Components; Tolerance: ±10%; Value: 2.2µF; Applications: General Purpose; Capacitance: 2.2µF; ComponentLink1Description: Datasheet; ComponentLink1URL: https://global.kyocera.com/prdct/electro/product/pdf/cm_e.pdf; ComponentLink2Description: DigiKey Link; ComponentLink2URL: http://digikey.com/product-detail/en/kyocera-international-inc-electronic-components/CM05X5R225K10AH/1253-CM05X5R225K10AHCT-ND/11564072; Device Package: 0402 (1005 Metric); LastUpdated: 9/2/2020 1:00:48 AM; Lifecycle Status: Active; Minimum Order: 1; Mounting Type: Surface Mount, MLCC; Operating Temperature: -55°C ~ 85°C; Package / Case: 0402 (1005 Metric); Packaging: TapeAndReel; PartId: 27125; Part Status: Active; Price: 0.02; Series: CM; Supplier 1: DigiKey; Supplier Part Number 1: 1253-CM05X5R225K10AHCT-ND; Temperature Coefficient: X5R; Voltage - Rated: 10V
footprint CAP 0402_1005
pins: 1, 2

## CM05X5R225K16AH
designator C?, comment 2.2µF
CAP CER 2.2?F 16V X5R 0402; Part Number: CM05X5R225K16AH; Manufacturer: Kyocera International Inc. Electronic Components; Tolerance: ±10%; Value: 2.2µF; Applications: General Purpose; Capacitance: 2.2µF; ComponentLink1Description: Datasheet; ComponentLink1URL: https://global.kyocera.com/prdct/electro/product/pdf/cm_e.pdf; ComponentLink2Description: DigiKey Link; ComponentLink2URL: http://digikey.com/product-detail/en/kyocera-international-inc-electronic-components/CM05X5R225K16AH/1253-CM05X5R225K16AHCT-ND/11564065; Device Package: 0402 (1005 Metric); LastUpdated: 9/2/2020 1:00:48 AM; Lifecycle Status: Active; Minimum Order: 1; Mounting Type: Surface Mount, MLCC; Operating Temperature: -55°C ~ 85°C; Package / Case: 0402 (1005 Metric); Packaging: TapeAndReel; PartId: 27121; Part Status: Active; Price: 0.02; Series: CM; Supplier 1: DigiKey; Supplier Part Number 1: 1253-CM05X5R225K16AHCT-ND; Temperature Coefficient: X5R; Voltage - Rated: 16V
footprint CAP 0402_1005
pins: 1, 2

## CM05X5R225M10AH
designator C?, comment 2.2µF
CAP CER 2.2?F 10V X5R 0402; Part Number: CM05X5R225M10AH; Manufacturer: Kyocera International Inc. Electronic Components; Tolerance: ±20%; Value: 2.2µF; Applications: General Purpose; Capacitance: 2.2µF; ComponentLink1Description: Datasheet; ComponentLink1URL: https://global.kyocera.com/prdct/electro/product/pdf/cm_e.pdf; ComponentLink2Description: DigiKey Link; ComponentLink2URL: http://digikey.com/product-detail/en/kyocera-international-inc-electronic-components/CM05X5R225M10AH/1253-CM05X5R225M10AHCT-ND/11564157; Device Package: 0402 (1005 Metric); LastUpdated: 9/2/2020 1:00:48 AM; Lifecycle Status: Active; Minimum Order: 1; Mounting Type: Surface Mount, MLCC; Operating Temperature: -55°C ~ 85°C; Package / Case: 0402 (1005 Metric); Packaging: TapeAndReel; PartId: 27126; Part Status: Active; Price: 0.02; Series: CM; Supplier 1: DigiKey; Supplier Part Number 1: 1253-CM05X5R225M10AHCT-ND; Temperature Coefficient: X5R; Voltage - Rated: 10V
footprint CAP 0402_1005
pins: 1, 2

## CM05X5R225M16AH
designator C?, comment 2.2µF
CAP CER 2.2?F 16V X5R 0402; Part Number: CM05X5R225M16AH; Manufacturer: Kyocera International Inc. Electronic Components; Tolerance: ±20%; Value: 2.2µF; Applications: General Purpose; Capacitance: 2.2µF; ComponentLink1Description: Datasheet; ComponentLink1URL: https://global.kyocera.com/prdct/electro/product/pdf/cm_e.pdf; ComponentLink2Description: DigiKey Link; ComponentLink2URL: http://digikey.com/product-detail/en/kyocera-international-inc-electronic-components/CM05X5R225M16AH/1253-CM05X5R225M16AHCT-ND/11564020; Device Package: 0402 (1005 Metric); LastUpdated: 9/2/2020 1:00:48 AM; Lifecycle Status: Active; Minimum Order: 1; Mounting Type: Surface Mount, MLCC; Operating Temperature: -55°C ~ 85°C; Package / Case: 0402 (1005 Metric); Packaging: TapeAndReel; PartId: 27124; Part Status: Active; Price: 0.02; Series: CM; Supplier 1: DigiKey; Supplier Part Number 1: 1253-CM05X5R225M16AHCT-ND; Temperature Coefficient: X5R; Voltage - Rated: 16V
footprint CAP 0402_1005
pins: 1, 2

## CM05X5R475M10AH
designator C?, comment 4.7µF
CAP CER 4.7?F 10V X5R 0402; Part Number: CM05X5R475M10AH; Manufacturer: Kyocera International Inc. Electronic Components; Tolerance: ±20%; Value: 4.7µF; Applications: General Purpose; Capacitance: 4.7µF; ComponentLink1Description: Datasheet; ComponentLink1URL: https://global.kyocera.com/prdct/electro/product/pdf/cm_e.pdf; ComponentLink2Description: DigiKey Link; ComponentLink2URL: http://digikey.com/product-detail/en/kyocera-international-inc-electronic-components/CM05X5R475M10AH/1253-CM05X5R475M10AHCT-ND/11564023; Device Package: 0402 (1005 Metric); LastUpdated: 9/2/2020 1:00:48 AM; Lifecycle Status: Active; Minimum Order: 1; Mounting Type: Surface Mount, MLCC; Operating Temperature: -55°C ~ 85°C; Package / Case: 0402 (1005 Metric); Packaging: TapeAndReel; PartId: 27123; Part Status: Active; Price: 0.02; Series: CM; Supplier 1: DigiKey; Supplier Part Number 1: 1253-CM05X5R475M10AHCT-ND; Temperature Coefficient: X5R; Voltage - Rated: 10V
footprint CAP 0402_1005
pins: 1, 2

## CM05X6S105K06AH-HE
designator C?, comment 1µF
CAP CER 1UF 6.3V X6S 0402; Part Number: CM05X6S105K06AH-HE; Manufacturer: Kyocera International Inc. Electronic Components; Tolerance: ±10%; Value: 1µF; Applications: General Purpose; Capacitance: 1µF; ComponentLink1Description: Datasheet; ComponentLink1URL: https://global.kyocera.com/prdct/electro/product/pdf/cm_e.pdf; ComponentLink2Description: DigiKey Link; ComponentLink2URL: http://digikey.com/product-detail/en/kyocera-international-inc-electronic-components/CM05X6S105K06AH-HE/1253-2052-1-ND/10197148; Device Package: 0402 (1005 Metric); LastUpdated: 9/2/2020 1:02:25 AM; Lifecycle Status: Active; Minimum Order: 1; Mounting Type: Surface Mount, MLCC; Operating Temperature: -55°C ~ 105°C; Package / Case: 0402 (1005 Metric); Packaging: TapeAndReel; PartId: 1816; Part Status: Active; Price: 0.04; Series: CM; Size / Dimension: 0.039" L x 0.020" W (1.00mm x 0.50mm); Supplier 1: DigiKey; Supplier Part Number 1: 1253-2052-1-ND; Temperature Coefficient: X6S; Thickness (Max): 0.022" (0.55mm); Voltage - Rated: 6.3V
footprint CAP 0402_1005
pins: 1, 2

## CM05X6T475M06AH
designator C?, comment 4.7µF
CAP CER 4.7UF 6.3V X6T 0402; Part Number: CM05X6T475M06AH; Manufacturer: Kyocera International Inc. Electronic Components; Tolerance: ±20%; Value: 4.7µF; Applications: General Purpose; Capacitance: 4.7µF; ComponentLink1Description: Datasheet; ComponentLink1URL: https://global.kyocera.com/prdct/electro/product/pdf/cm_e.pdf; ComponentLink2Description: DigiKey Link; ComponentLink2URL: http://digikey.com/product-detail/en/kyocera-international-inc-electronic-components/CM05X6T475M06AH/1253-2055-1-ND/10197151; Device Package: 0402 (1005 Metric); LastUpdated: 9/2/2020 1:01:09 AM; Lifecycle Status: Active; Minimum Order: 1; Mounting Type: Surface Mount, MLCC; Operating Temperature: -55°C ~ 105°C; Package / Case: 0402 (1005 Metric); Packaging: TapeAndReel; PartId: 26162; Part Status: Active; Price: 0.07; Series: CM; Supplier 1: DigiKey; Supplier Part Number 1: 1253-2055-1-ND; Temperature Coefficient: X6T; Voltage - Rated: 6.3V
footprint CAP 0402_1005
pins: 1, 2

## CM05X7S225M04AH065
designator C?, comment 2.2µF
CAP CER 2.2UF 4V X7S 0402; Part Number: CM05X7S225M04AH065; Manufacturer: Kyocera International Inc. Electronic Components; Tolerance: ±20%; Value: 2.2µF; Applications: General Purpose; Capacitance: 2.2µF; ComponentLink1Description: Datasheet; ComponentLink1URL: https://global.kyocera.com/prdct/electro/product/pdf/cm_e.pdf; ComponentLink2Description: DigiKey Link; ComponentLink2URL: http://digikey.com/product-detail/en/kyocera-international-inc-electronic-components/CM05X7S225M04AH065/1253-2054-1-ND/10197150; Device Package: 0402 (1005 Metric); LastUpdated: 9/2/2020 1:02:10 AM; Lifecycle Status: Active; Minimum Order: 1; Mounting Type: Surface Mount, MLCC; Operating Temperature: -55°C ~ 125°C; Package / Case: 0402 (1005 Metric); Packaging: TapeAndReel; PartId: 8343; Part Status: Active; Price: 0.05; Series: CM; Size / Dimension: 0.039" L x 0.020" W (1.00mm x 0.50mm); Supplier 1: DigiKey; Supplier Part Number 1: 1253-2054-1-ND; Temperature Coefficient: X7S; Thickness (Max): 0.026" (0.65mm); Voltage - Rated: 4V
footprint CAP 0402_1005
pins: 1, 2

## CM05X7T105K06AH-HE
designator C?, comment 1µF
CAP CER 1UF 6.3V X7T 0402; Part Number: CM05X7T105K06AH-HE; Manufacturer: Kyocera International Inc. Electronic Components; Tolerance: ±10%; Value: 1µF; Applications: General Purpose; Capacitance: 1µF; ComponentLink1Description: Datasheet; ComponentLink1URL: https://global.kyocera.com/prdct/electro/product/pdf/cm_e.pdf; ComponentLink2Description: DigiKey Link; ComponentLink2URL: http://digikey.com/product-detail/en/kyocera-international-inc-electronic-components/CM05X7T105K06AH-HE/1253-2053-1-ND/10197149; Device Package: 0402 (1005 Metric); LastUpdated: 9/2/2020 1:02:25 AM; Lifecycle Status: Active; Minimum Order: 1; Mounting Type: Surface Mount, MLCC; Operating Temperature: -55°C ~ 125°C; Package / Case: 0402 (1005 Metric); Packaging: TapeAndReel; PartId: 1845; Part Status: Active; Price: 0.04; Series: CM; Size / Dimension: 0.039" L x 0.020" W (1.00mm x 0.50mm); Supplier 1: DigiKey; Supplier Part Number 1: 1253-2053-1-ND; Temperature Coefficient: X7T; Thickness (Max): 0.022" (0.55mm); Voltage - Rated: 6.3V
footprint CAP 0402_1005
pins: 1, 2

## EMF105B7102KVHF
designator C?, comment 1000pF
CAP, MLCC, 0402/1005, 16V, X7R,; Part Number: EMF105B7102KVHF; Manufacturer: Taiyo Yuden; Tolerance: ±10%; Value: 1000pF; Applications: Automotive, SMPS Filtering; Capacitance: 1000pF; ComponentLink1Description: Datasheet; ComponentLink1URL: https://ds.yuden.co.jp/TYCOMPAS/ut/detail?pn=EMF105B7102KVHF&u=M; ComponentLink2Description: DigiKey Link; ComponentLink2URL: http://digikey.com/product-detail/en/taiyo-yuden/EMF105B7102KVHF/587-6567-1-ND/10379260; Device Package: 0402 (1005 Metric); LastUpdated: 9/2/2020 1:02:08 AM; Lifecycle Status: Active; Minimum Order: 1; Mounting Type: Surface Mount, MLCC; Operating Temperature: -55°C ~ 125°C; Package / Case: 0402 (1005 Metric); Packaging: TapeAndReel; PartId: 9099; Part Status: Active; Price: 0.01; Ratings: AEC-Q200; Series: M; Size / Dimension: 0.039" L x 0.020" W (1.00mm x 0.50mm); Supplier 1: DigiKey; Supplier Part Number 1: 587-6567-1-ND; Temperature Coefficient: X7R; Thickness (Max): 0.022" (0.55mm); Voltage - Rated: 16V
footprint CAP 0402_1005
pins: 1, 2

## EMF105B7103KVHF
designator C?, comment 10000pF
CAP, MLCC, 0402/1005, 16V, X7R,; Part Number: EMF105B7103KVHF; Manufacturer: Taiyo Yuden; Tolerance: ±10%; Value: 10000pF; Applications: Automotive, SMPS Filtering; Capacitance: 10000pF; ComponentLink1Description: Datasheet; ComponentLink1URL: https://ds.yuden.co.jp/TYCOMPAS/ut/detail?pn=EMF105B7103KVHF&u=M; ComponentLink2Description: DigiKey Link; ComponentLink2URL: http://digikey.com/product-detail/en/taiyo-yuden/EMF105B7103KVHF/587-6583-1-ND/10379276; Device Package: 0402 (1005 Metric); LastUpdated: 9/2/2020 1:02:25 AM; Lifecycle Status: Active; Minimum Order: 1; Mounting Type: Surface Mount, MLCC; Operating Temperature: -55°C ~ 125°C; Package / Case: 0402 (1005 Metric); Packaging: TapeAndReel; PartId: 1864; Part Status: Active; Price: 0.01; Ratings: AEC-Q200; Series: M; Size / Dimension: 0.039" L x 0.020" W (1.00mm x 0.50mm); Supplier 1: DigiKey; Supplier Part Number 1: 587-6583-1-ND; Temperature Coefficient: X7R; Thickness (Max): 0.022" (0.55mm); Voltage - Rated: 16V
footprint CAP 0402_1005
pins: 1, 2